# Altium footprint library ic-package.PCBLIB: 75 footprints (part 5 of 5)
Each footprint in its own frame and in the unit in brackets; x right, y up, seen from the top. Pads: shape width x height; smd on the part's side, far side on the other; paste and mask are expansions set on the pad; w line width, h text height; cw(c..) or ccw(c..) is an arc to the next point about the centre after c.
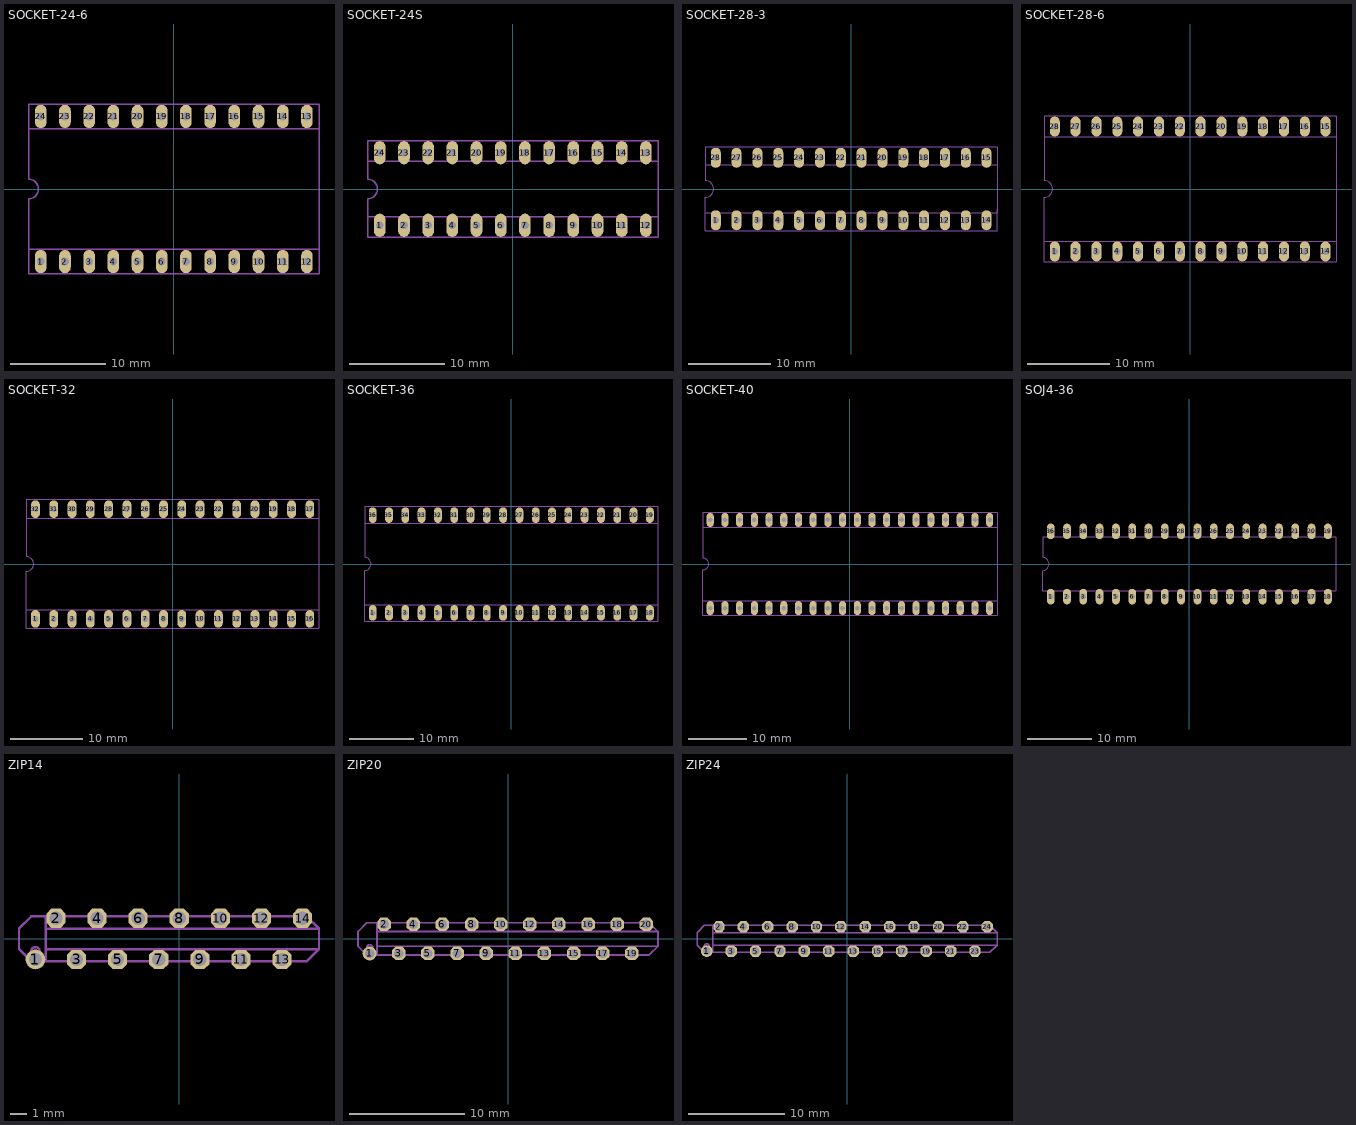
[diagram p4: the footprints below, top view; thin cyan lines are the x and y axes]

## SOCKET-24-6 [mil]
pads (24):
  oval 48x96 hole 32: 1(-550,-300) 2(-450,-300) 3(-350,-300) 4(-250,-300) 5(-150,-300) 6(-50,-300) 7(50,-300) 8(150,-300) 9(250,-300) 10(350,-300) 11(450,-300) 12(550,-300) 13(550,300) 14(450,300) 15(350,300) 16(250,300) 17(150,300) 18(50,300) 19(-50,300) 20(-150,300) 21(-250,300) 22(-350,300) 23(-450,300) 24(-550,300)
Mechanical 2:
  lines w6: -600,-250 -600,-350 600,-350 600,-250 ; -600,-250 -600,-40 ccw(c-600,0) -600,40 -600,250 ; -600,-250 600,-250 ; -600,250 -600,350 600,350 600,250 ; -600,250 600,250 ; 600,-250 600,250

## SOCKET-24S [mil]
pads (24):
  oval 48x96 hole 32: 1(-550,-150) 2(-450,-150) 3(-350,-150) 4(-250,-150) 5(-150,-150) 6(-50,-150) 7(50,-150) 8(150,-150) 9(250,-150) 10(350,-150) 11(450,-150) 12(550,-150) 13(550,150) 14(450,150) 15(350,150) 16(250,150) 17(150,150) 18(50,150) 19(-50,150) 20(-150,150) 21(-250,150) 22(-350,150) 23(-450,150) 24(-550,150)
Mechanical 2:
  lines w6: -600,-100 -600,-115 600,-115 600,-100 ; -600,-100 -600,-40 ccw(c-600,0) -600,40 -600,100 ; -600,-100 -600,-200 600,-200 600,-100 ; -600,100 -600,115 600,115 600,100 ; -600,100 -600,200 600,200 600,100 ; 600,-100 600,100

## SOCKET-28-3 [mil]
pads (28):
  oval 48x96 hole 32: 1(-650,-150) 2(-550,-150) 3(-450,-150) 4(-350,-150) 5(-250,-150) 6(-150,-150) 7(-50,-150) 8(50,-150) 9(150,-150) 10(250,-150) 11(350,-150) 12(450,-150) 13(550,-150) 14(650,-150) 15(650,150) 16(550,150) 17(450,150) 18(350,150) 19(250,150) 20(150,150) 21(50,150) 22(-50,150) 23(-150,150) 24(-250,150) 25(-350,150) 26(-450,150) 27(-550,150) 28(-650,150)
Mechanical 2:
  lines w6: -700,-100 -700,-115 700,-115 700,-100 ; -700,-100 -700,-40 ccw(c-700,0) -700,40 -700,100 ; -700,-100 -700,-200 700,-200 700,-100 ; -700,100 -700,115 700,115 700,100 ; -700,100 -700,200 700,200 700,100 ; 700,-100 700,100

## SOCKET-28-6 [mil]
pads (28):
  oval 48x96 hole 32: 1(-650,-300) 2(-550,-300) 3(-450,-300) 4(-350,-300) 5(-250,-300) 6(-150,-300) 7(-50,-300) 8(50,-300) 9(150,-300) 10(250,-300) 11(350,-300) 12(450,-300) 13(550,-300) 14(650,-300) 15(650,300) 16(550,300) 17(450,300) 18(350,300) 19(250,300) 20(150,300) 21(50,300) 22(-50,300) 23(-150,300) 24(-250,300) 25(-350,300) 26(-450,300) 27(-550,300) 28(-650,300)
Mechanical 2:
  lines w6: -700,-250 -700,-350 700,-350 700,-250 ; -700,-250 700,-250 ; -700,-250 -700,-40 ccw(c-700,0) -700,40 -700,250 ; -700,250 -700,350 700,350 700,250 ; -700,250 700,250 ; 700,-250 700,250

## SOCKET-32 [mil]
pads (32):
  oval 48x96 hole 32: 1(-750,-300) 2(-650,-300) 3(-550,-300) 4(-450,-300) 5(-350,-300) 6(-250,-300) 7(-150,-300) 8(-50,-300) 9(50,-300) 10(150,-300) 11(250,-300) 12(350,-300) 13(450,-300) 14(550,-300) 15(650,-300) 16(750,-300) 17(750,300) 18(650,300) 19(550,300) 20(450,300) 21(350,300) 22(250,300) 23(150,300) 24(50,300) 25(-50,300) 26(-150,300) 27(-250,300) 28(-350,300) 29(-450,300) 30(-550,300) 31(-650,300) 32(-750,300)
Mechanical 2:
  lines w6: -800,-250 -800,-350 800,-350 800,-250 ; -800,-250 800,-250 ; -800,-250 -800,-40 ccw(c-800,0) -800,40 -800,250 ; -800,250 -800,350 800,350 800,250 ; -800,250 800,250 ; 800,-250 800,250

## SOCKET-36 [mil]
pads (36):
  oval 48x96 hole 32: 1(-850,-300) 2(-750,-300) 3(-650,-300) 4(-550,-300) 5(-450,-300) 6(-350,-300) 7(-250,-300) 8(-150,-300) 9(-50,-300) 10(50,-300) 11(150,-300) 12(250,-300) 13(350,-300) 14(450,-300) 15(550,-300) 16(650,-300) 17(750,-300) 18(850,-300) 19(850,300) 20(750,300) 21(650,300) 22(550,300) 23(450,300) 24(350,300) 25(250,300) 26(150,300) 27(50,300) 28(-50,300) 29(-150,300) 30(-250,300) 31(-350,300) 32(-450,300) 33(-550,300) 34(-650,300) 35(-750,300) 36(-850,300)
Mechanical 2:
  lines w6: -900,-250 -900,-350 900,-350 900,-250 ; -900,-250 900,-250 ; -900,-250 -900,-40 ccw(c-900,0) -900,40 -900,250 ; -900,250 -900,350 900,350 900,250 ; -900,250 900,250 ; 900,-250 900,250

## SOCKET-40 [mil]
pads (40):
  oval 48x96 hole 32: 1(-950,-300) 2(-850,-300) 3(-750,-300) 4(-650,-300) 5(-550,-300) 6(-450,-300) 7(-350,-300) 8(-250,-300) 9(-150,-300) 10(-50,-300) 11(50,-300) 12(150,-300) 13(250,-300) 14(350,-300) 15(450,-300) 16(550,-300) 17(650,-300) 18(750,-300) 19(850,-300) 20(950,-300) 21(950,300) 22(850,300) 23(750,300) 24(650,300) 25(550,300) 26(450,300) 27(350,300) 28(250,300) 29(150,300) 30(50,300) 31(-50,300) 32(-150,300) 33(-250,300) 34(-350,300) 35(-450,300) 36(-550,300) 37(-650,300) 38(-750,300) 39(-850,300) 40(-950,300)
Mechanical 2:
  lines w6: -1000,-250 -1000,-350 1000,-350 1000,-250 ; -1000,-250 1000,-250 ; -1000,-250 -1000,-40 ccw(c-1000,0) -1000,40 -1000,250 ; -1000,250 -1000,350 1000,350 1000,250 ; -1000,250 1000,250 ; 1000,-250 1000,250

## SOJ4-36 [mil]
pads (36):
  oval 48x96 hole 32: 1(-850,-200) 2(-750,-200) 3(-650,-200) 4(-550,-200) 5(-450,-200) 6(-350,-200) 7(-250,-200) 8(-150,-200) 9(-50,-200) 10(50,-200) 11(150,-200) 12(250,-200) 13(350,-200) 14(450,-200) 15(550,-200) 16(650,-200) 17(750,-200) 18(850,-200) 19(850,200) 20(750,200) 21(650,200) 22(550,200) 23(450,200) 24(350,200) 25(250,200) 26(150,200) 27(50,200) 28(-50,200) 29(-150,200) 30(-250,200) 31(-350,200) 32(-450,200) 33(-550,200) 34(-650,200) 35(-750,200) 36(-850,200)
Mechanical 2:
  lines w6: -900,-165 900,-165 900,165 -900,165 -900,40 cw(c-900,0) -900,-40 -900,-165

## ZIP14 [mil]
pads (14):
  round 48 hole 32: 1(-350,-50)
  oct 46.48x46.48 hole 32: 2(-300,50) 3(-250,-50) 4(-200,50) 5(-150,-50) 6(-100,50) 7(-50,-50) 8(0,50) 9(50,-50) 10(100,50) 11(150,-50) 12(200,50) 13(250,-50) 14(300,50)
Mechanical 2:
  lines w6: -390,-25 -390,25 -360,55 -335,55 ; -315,-55 -285,-55 ; -265,55 -235,55 ; -215,-55 -185,-55 ; -165,55 -135,55 ; -115,-55 -85,-55 ; -65,55 -35,55 ; -15,-55 15,-55 ; 35,55 65,55 ; 85,-55 115,-55 ; 135,55 165,55 ; 185,-55 215,-55 ; 235,55 265,55 ; 285,-55 310,-55 340,-25 340,25
Mechanical 18:
  circle w6: c-350,-30 r10
  lines w6: -390,-25 -360,-55 -325,-55 ; -335,55 -325,55 ; -315,-55 -325,-55 ; -285,-55 -215,-55 ; -265,55 -325,55 ; -235,55 -165,55 ; -185,-55 -115,-55 ; -135,55 -65,55 ; -85,-55 -15,-55 ; -35,55 35,55 ; 15,-55 85,-55 ; 65,55 135,55 ; 115,-55 185,-55 ; 165,55 235,55 ; 215,-55 285,-55 ; 265,55 310,55 340,25 -325,25 ; 340,-25 -325,-25 ; -325,-55 -325,-25 ; -325,-25 -325,25 ; -325,25 -325,55

## ZIP20 [mil]
pads (20):
  round 48 hole 32: 1(-475,-50)
  oct 46.48x46.48 hole 32: 2(-425,50) 3(-375,-50) 4(-325,50) 5(-275,-50) 6(-225,50) 7(-175,-50) 8(-125,50) 9(-75,-50) 10(-25,50) 11(25,-50) 12(75,50) 13(125,-50) 14(175,50) 15(225,-50) 16(275,50) 17(325,-50) 18(375,50) 19(425,-50) 20(475,50)
Mechanical 2:
  lines w6: -515,-25 -515,25 -485,55 -460,55 ; -440,-55 -410,-55 ; -390,55 -360,55 ; -340,-55 -310,-55 ; -290,55 -260,55 ; -240,-55 -210,-55 ; -190,55 -160,55 ; -140,-55 -110,-55 ; -90,55 -60,55 ; -40,-55 -10,-55 ; 10,55 40,55 ; 60,-55 90,-55 ; 110,55 140,55 ; 160,-55 190,-55 ; 210,55 240,55 ; 260,-55 290,-55 ; 310,55 340,55 ; 360,-55 390,-55 ; 410,55 440,55 ; 460,-55 485,-55 515,-25 515,25
Mechanical 18:
  circle w6: c-475,-30 r10
  lines w6: -515,-25 -485,-55 -450,-55 ; -460,55 -450,55 ; -440,-55 -450,-55 ; -410,-55 -340,-55 ; -390,55 -450,55 ; -360,55 -290,55 ; -310,-55 -240,-55 ; -260,55 -190,55 ; -210,-55 -140,-55 ; -160,55 -90,55 ; -110,-55 -40,-55 ; -60,55 10,55 ; -10,-55 60,-55 ; 40,55 110,55 ; 90,-55 160,-55 ; 140,55 210,55 ; 190,-55 260,-55 ; 240,55 310,55 ; 290,-55 360,-55 ; 340,55 410,55 ; 390,-55 460,-55 ; 440,55 485,55 515,25 -450,25 ; 515,-25 -450,-25 ; -450,-55 -450,-25 ; -450,-25 -450,25 ; -450,25 -450,55

## ZIP24 [mil]
pads (24):
  round 48 hole 32: 1(-575,-50)
  oct 46.48x46.48 hole 32: 2(-525,50) 3(-475,-50) 4(-425,50) 5(-375,-50) 6(-325,50) 7(-275,-50) 8(-225,50) 9(-175,-50) 10(-125,50) 11(-75,-50) 12(-25,50) 13(25,-50) 14(75,50) 15(125,-50) 16(175,50) 17(225,-50) 18(275,50) 19(325,-50) 20(375,50) 21(425,-50) 22(475,50) 23(525,-50) 24(575,50)
Mechanical 2:
  lines w6: -615,-25 -615,25 -585,55 -560,55 ; -540,-55 -510,-55 ; -490,55 -460,55 ; -440,-55 -410,-55 ; -390,55 -360,55 ; -340,-55 -310,-55 ; -290,55 -260,55 ; -240,-55 -210,-55 ; -190,55 -160,55 ; -140,-55 -110,-55 ; -90,55 -60,55 ; -40,-55 -10,-55 ; 10,55 40,55 ; 60,-55 90,-55 ; 110,55 140,55 ; 160,-55 190,-55 ; 210,55 240,55 ; 260,-55 290,-55 ; 310,55 340,55 ; 360,-55 390,-55 ; 410,55 440,55 ; 460,-55 490,-55 ; 510,55 540,55 ; 560,-55 585,-55 615,-25 615,25
Mechanical 18:
  circle w6: c-575,-30 r10
  lines w6: -615,-25 -585,-55 -550,-55 ; -560,55 -550,55 ; -540,-55 -550,-55 ; -510,-55 -440,-55 ; -490,55 -550,55 ; -460,55 -390,55 ; -410,-55 -340,-55 ; -360,55 -290,55 ; -310,-55 -240,-55 ; -260,55 -190,55 ; -210,-55 -140,-55 ; -160,55 -90,55 ; -110,-55 -40,-55 ; -60,55 10,55 ; -10,-55 60,-55 ; 40,55 110,55 ; 90,-55 160,-55 ; 140,55 210,55 ; 190,-55 260,-55 ; 240,55 310,55 ; 290,-55 360,-55 ; 340,55 410,55 ; 390,-55 460,-55 ; 440,55 510,55 ; 490,-55 560,-55 ; 540,55 585,55 615,25 -550,25 ; 615,-25 -550,-25 ; -550,-55 -550,-25 ; -550,-25 -550,25 ; -550,25 -550,55